# Altium schematic symbol library SS12FP.SchLib: 1 symbol
Pins are listed as number, name and electrical type; pins without a type are passive.

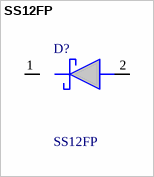
[diagram p0: symbol SS12FP]

## SS12FP
designator D?
* See authorized use policy; Industrial Device Qualified per AEC-Q101 Standards; High Surge Current Capability; RoHS Compliant / Green Molding Compound; UL Flammability 94V-0 Classification; Low Power Loss, High Efficiency; Ultra Thin Profile - Package Height < 1.0 mm; Larger Cathode Pad for Improved Power Dissipation; MSL 1 per J-STD-020; Manufacturer_Name: onsemi; Geometry.Height: 1mm; Mouser Part Number: 512-SS12FP; Mouser Price/Stock: https://www.mouser.co.uk/ProductDetail/onsemi-Fairchild/SS12FP?qs=R26iFe%2FkX%2FLDfxY7OgqtVg%3D%3D; Manufacturer_Part_Number: SS12FP; Datasheet Link: https://www.onsemi.com/pub/Collateral/S110FP-D.pdf
footprint SS12FP
pins: 1 K, 2 A